# EAGLE library part GA3459-BL (library kickerchips)
GA3459-BL transformer
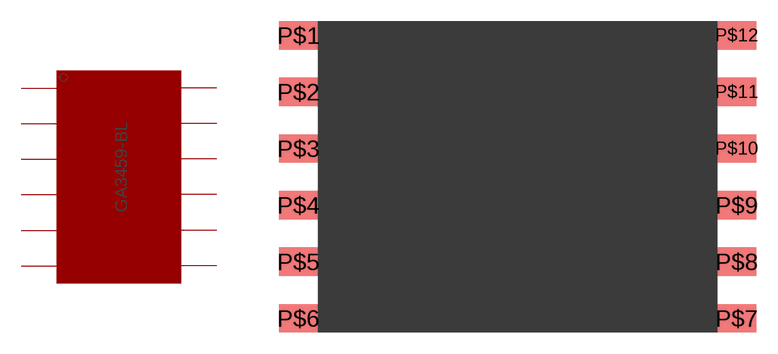
[diagram p1: symbol with the pads of TRANS; footprint TRANS]

Designator prefix -

## GA3459-BL  [TRANS]
P$1  P$1
P$2  P$2
P$3  P$3
P$4  P$4
P$5  P$5
P$6  P$6
P$7  P$7
P$8  P$8
P$9  P$9
P$10  P$10
P$11  P$11
P$12  P$12

## Footprint TRANS (pad centres in mm)
Special package for GA3459-BL transformer
smd 2.75 x 2: P$1 -1.375,-1; P$2 -1.375,-5; P$3 -1.375,-9; P$4 -1.375,-13; P$5 -1.375,-17; P$6 -1.375,-21; P$7 29.575,-21; P$8 29.575,-17; P$9 29.575,-13; P$10 29.575,-9; P$11 29.575,-5; P$12 29.575,-1